# EAGLE library part ARDUINO_BREADBOARD (library Headers)
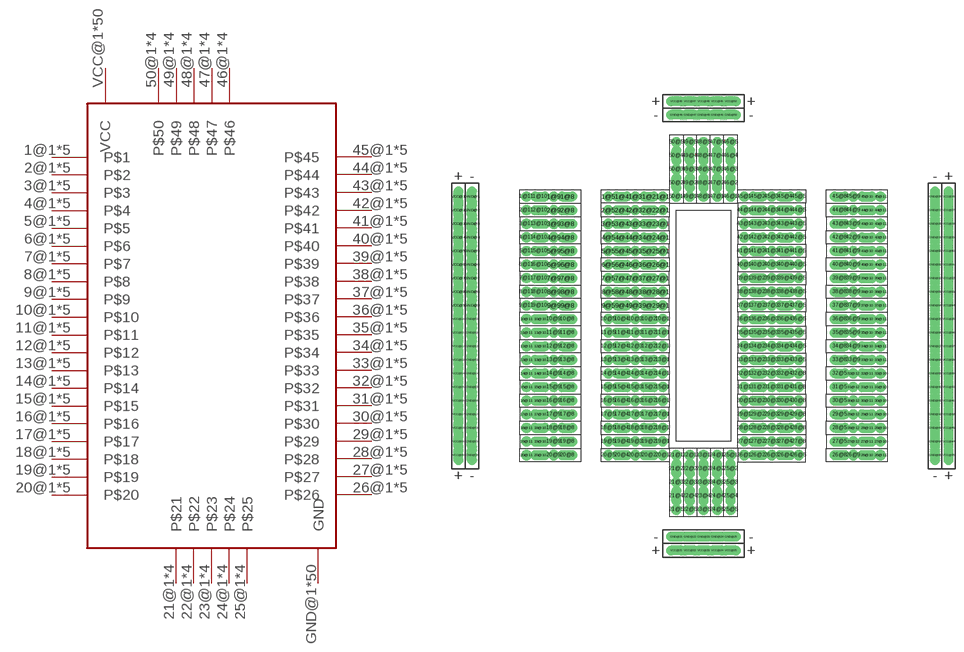
[diagram p0: symbol with the pads of ARDUINO_BREADBOARD; footprint ARDUINO_BREADBOARD]

Designator prefix -

## ARDUINO_BREADBOARD  [ARDUINO_BREADBOARD]
1@1  P$1
1@2  P$1
1@3  P$1
1@4  P$1
1@5  P$1
2@1  P$2
2@2  P$2
2@3  P$2
2@4  P$2
2@5  P$2
3@1  P$3
3@2  P$3
3@3  P$3
3@4  P$3
3@5  P$3
4@1  P$4
4@2  P$4
4@3  P$4
4@4  P$4
4@5  P$4
5@1  P$5
5@2  P$5
5@3  P$5
5@4  P$5
5@5  P$5
6@1  P$6
6@2  P$6
6@3  P$6
6@4  P$6
6@5  P$6
7@1  P$7
7@2  P$7
7@3  P$7
7@4  P$7
7@5  P$7
8@1  P$8
8@2  P$8
8@3  P$8
8@4  P$8
8@5  P$8
9@1  P$9
9@2  P$9
9@3  P$9
9@4  P$9
9@5  P$9
10@1  P$10
10@2  P$10
10@3  P$10
10@4  P$10
10@5  P$10
11@1  P$11
11@2  P$11
11@3  P$11
11@4  P$11
11@5  P$11
12@1  P$12
12@2  P$12
12@3  P$12
12@4  P$12
12@5  P$12
13@1  P$13
13@2  P$13
13@3  P$13
13@4  P$13
13@5  P$13
14@1  P$14
14@2  P$14
14@3  P$14
14@4  P$14
14@5  P$14
15@1  P$15
15@2  P$15
15@3  P$15
15@4  P$15
15@5  P$15
16@1  P$16
16@2  P$16
16@3  P$16
16@4  P$16
16@5  P$16
17@1  P$17
17@2  P$17
17@3  P$17
17@4  P$17
17@5  P$17
18@1  P$18
18@2  P$18
18@3  P$18
18@4  P$18
18@5  P$18
19@1  P$19
19@2  P$19
19@3  P$19
19@4  P$19
19@5  P$19
20@1  P$20
20@2  P$20
20@3  P$20
20@4  P$20
20@5  P$20
21@1  P$21
21@2  P$21
21@3  P$21
21@4  P$21
22@1  P$22
22@2  P$22
22@3  P$22
22@4  P$22
23@1  P$23
23@2  P$23
23@3  P$23
23@4  P$23
24@1  P$24
24@2  P$24
24@3  P$24
24@4  P$24
25@1  P$25
25@2  P$25
25@3  P$25
25@4  P$25
26@1  P$26
26@2  P$26
26@3  P$26
26@4  P$26
26@5  P$26
27@1  P$27
27@2  P$27
27@3  P$27
27@4  P$27
27@5  P$27
28@1  P$28
28@2  P$28
28@3  P$28
28@4  P$28
28@5  P$28
29@1  P$29
29@2  P$29
29@3  P$29
29@4  P$29
29@5  P$29
30@1  P$30
30@2  P$30
30@3  P$30
30@4  P$30
30@5  P$30
31@1  P$31
31@2  P$31
31@3  P$31
31@4  P$31
31@5  P$31
32@1  P$32
32@2  P$32
32@3  P$32
32@4  P$32
32@5  P$32
33@1  P$33
33@2  P$33
33@3  P$33
33@4  P$33
33@5  P$33
34@1  P$34
34@2  P$34
34@3  P$34
34@4  P$34
34@5  P$34
35@1  P$35
35@2  P$35
35@3  P$35
35@4  P$35
35@5  P$35
36@1  P$36
36@2  P$36
36@3  P$36
36@4  P$36
36@5  P$36
37@1  P$37
37@2  P$37
37@3  P$37
37@4  P$37
37@5  P$37
38@1  P$38
38@2  P$38
38@3  P$38
38@4  P$38
38@5  P$38
39@1  P$39
39@2  P$39
39@3  P$39
39@4  P$39
39@5  P$39
40@1  P$40
40@2  P$40
40@3  P$40
40@4  P$40
40@5  P$40
41@1  P$41
41@2  P$41
41@3  P$41
41@4  P$41
41@5  P$41
42@1  P$42
42@2  P$42
42@3  P$42
42@4  P$42
42@5  P$42
43@1  P$43
43@2  P$43
43@3  P$43
43@4  P$43
43@5  P$43
44@1  P$44
44@2  P$44
44@3  P$44
44@4  P$44
44@5  P$44
45@1  P$45
45@2  P$45
45@3  P$45
45@4  P$45
45@5  P$45
46@1  P$46
46@2  P$46
46@3  P$46
46@4  P$46
47@1  P$47
47@2  P$47
47@3  P$47
47@4  P$47
48@1  P$48
48@2  P$48
48@3  P$48
48@4  P$48
49@1  P$49
49@2  P$49
49@3  P$49
49@4  P$49
50@1  P$50
50@2  P$50
50@3  P$50
50@4  P$50
GND@1  GND
GND@2  GND
GND@3  GND
GND@4  GND
GND@5  GND
GND@6  GND
GND@7  GND
GND@8  GND
GND@9  GND
GND@10  GND
GND@11  GND
GND@12  GND
GND@13  GND
GND@14  GND
GND@15  GND
GND@16  GND
GND@17  GND
GND@18  GND
GND@19  GND
GND@20  GND
GND@21  GND
GND@22  GND
GND@23  GND
GND@24  GND
GND@25  GND
GND@26  GND
GND@27  GND
GND@28  GND
GND@29  GND
GND@30  GND
GND@31  GND
GND@32  GND
GND@33  GND
GND@34  GND
GND@35  GND
GND@36  GND
GND@37  GND
GND@38  GND
GND@39  GND
GND@40  GND
GND@41  GND
GND@42  GND
GND@43  GND
GND@44  GND
GND@45  GND
GND@46  GND
GND@47  GND
GND@48  GND
GND@49  GND
GND@50  GND
VCC@1  VCC
VCC@2  VCC
VCC@3  VCC
VCC@4  VCC
VCC@5  VCC
VCC@6  VCC
VCC@7  VCC
VCC@8  VCC
VCC@9  VCC
VCC@10  VCC
VCC@11  VCC
VCC@12  VCC
VCC@13  VCC
VCC@14  VCC
VCC@15  VCC
VCC@16  VCC
VCC@17  VCC
VCC@18  VCC
VCC@19  VCC
VCC@20  VCC
VCC@21  VCC
VCC@22  VCC
VCC@23  VCC
VCC@24  VCC
VCC@25  VCC
VCC@26  VCC
VCC@27  VCC
VCC@28  VCC
VCC@29  VCC
VCC@30  VCC
VCC@31  VCC
VCC@32  VCC
VCC@33  VCC
VCC@34  VCC
VCC@35  VCC
VCC@36  VCC
VCC@37  VCC
VCC@38  VCC
VCC@39  VCC
VCC@40  VCC
VCC@41  VCC
VCC@42  VCC
VCC@43  VCC
VCC@44  VCC
VCC@45  VCC
VCC@46  VCC
VCC@47  VCC
VCC@48  VCC
VCC@49  VCC
VCC@50  VCC

## Footprint ARDUINO_BREADBOARD (pad centres in mm)
drill 1.1 pad 1.9: 1@1 -7.62,24.13; 1@3 -12.7,24.13; 1@5 -17.78,24.13; 1@9 -27.94,24.13; 1@11 -33.02,24.13; 2@1 -7.62,21.59; 2@3 -12.7,21.59; 2@5 -17.78,21.59; 2@9 -27.94,21.59; 2@11 -33.02,21.59; 3@1 -7.62,19.05; 3@3 -12.7,19.05; 3@5 -17.78,19.05; 3@9 -27.94,19.05; 3@11 -33.02,19.05; 4@1 -7.62,16.51; 4@3 -12.7,16.51; 4@5 -17.78,16.51; 4@9 -27.94,16.51; 4@11 -33.02,16.51; 5@1 -7.62,13.97; 5@3 -12.7,13.97; 5@5 -17.78,13.97; 5@9 -27.94,13.97; 5@11 -33.02,13.97; 6@1 -7.62,11.43; 6@3 -12.7,11.43; 6@5 -17.78,11.43; 6@9 -27.94,11.43; 6@11 -33.02,11.43; 7@1 -7.62,8.89; 7@3 -12.7,8.89; 7@5 -17.78,8.89; 7@9 -27.94,8.89; 7@11 -33.02,8.89; 8@1 -7.62,6.35; 8@3 -12.7,6.35; 8@5 -17.78,6.35; 8@9 -27.94,6.35; 8@11 -33.02,6.35; 9@1 -7.62,3.81; 9@3 -12.7,3.81; 9@5 -17.78,3.81; 9@9 -27.94,3.81; 9@11 -33.02,3.81; 10@1 -7.62,1.27; 10@3 -12.7,1.27; 10@5 -17.78,1.27; 10@9 -27.94,1.27; 10@11 -33.02,1.27; 11@1 -7.62,-1.27; 11@3 -12.7,-1.27; 11@5 -17.78,-1.27; 11@9 -27.94,-1.27; 11@11 -33.02,-1.27; 12@1 -7.62,-3.81; 12@3 -12.7,-3.81; 12@5 -17.78,-3.81; 12@9 -27.94,-3.81; 12@11 -33.02,-3.81; 13@1 -7.62,-6.35; 13@3 -12.7,-6.35; 13@5 -17.78,-6.35; 13@9 -27.94,-6.35; 13@11 -33.02,-6.35; 14@1 -7.62,-8.89; 14@3 -12.7,-8.89; 14@5 -17.78,-8.89; 14@9 -27.94,-8.89; 14@11 -33.02,-8.89; 15@1 -7.62,-11.43; 15@3 -12.7,-11.43; 15@5 -17.78,-11.43; 15@9 -27.94,-11.43; 15@11 -33.02,-11.43; 16@1 -7.62,-13.97; 16@3 -12.7,-13.97; 16@5 -17.78,-13.97; 16@9 -27.94,-13.97; 16@11 -33.02,-13.97; 17@1 -7.62,-16.51; 17@3 -12.7,-16.51; 17@5 -17.78,-16.51; 17@9 -27.94,-16.51; 17@11 -33.02,-16.51; 18@1 -7.62,-19.05; 18@3 -12.7,-19.05; 18@5 -17.78,-19.05; 18@9 -27.94,-19.05; 18@11 -33.02,-19.05; 19@1 -7.62,-21.59; 19@3 -12.7,-21.59; 19@5 -17.78,-21.59; 19@9 -27.94,-21.59; 19@11 -33.02,-21.59; 20@1 -7.62,-24.13; 20@3 -12.7,-24.13; 20@5 -17.78,-24.13; 20@9 -27.94,-24.13; 20@11 -33.02,-24.13; 21@1 -5.08,-24.13; 21@3 -5.08,-29.21; 21@5 -5.08,-34.29; 22@1 -2.54,-24.13; 22@3 -2.54,-29.21; 22@5 -2.54,-34.29; 23@1 0,-24.13; 23@3 0,-29.21; 23@5 0,-34.29; 24@1 2.54,-24.13; 24@3 2.54,-29.21; 24@5 2.54,-34.29; 25@1 5.08,-24.13; 25@3 5.08,-29.21; 25@5 5.08,-34.29; 26@1 7.62,-24.13; 26@3 12.7,-24.13; 26@5 17.78,-24.13; 26@9 27.94,-24.13; 26@11 33.02,-24.13; 27@1 7.62,-21.59; 27@3 12.7,-21.59; 27@8 17.78,-21.59; 27@10 33.02,-21.59; 27@12 27.94,-21.59; 28@1 7.62,-19.05; 28@3 12.7,-19.05; 28@8 17.78,-19.05; 28@10 33.02,-19.05; 28@12 27.94,-19.05; 29@1 7.62,-16.51; 29@3 12.7,-16.51; 29@8 17.78,-16.51; 29@10 33.02,-16.51; 29@12 27.94,-16.51; 30@1 7.62,-13.97; 30@3 12.7,-13.97; 30@8 17.78,-13.97; 30@10 33.02,-13.97; 30@12 27.94,-13.97; 31@1 7.62,-11.43; 31@3 12.7,-11.43; 31@8 17.78,-11.43; 31@10 33.02,-11.43; 31@12 27.94,-11.43; 32@1 7.62,-8.89; 32@3 12.7,-8.89; 32@8 17.78,-8.89; 32@10 33.02,-8.89; 32@12 27.94,-8.89; 33@1 7.62,-6.35; 33@3 12.7,-6.35; 33@5 17.78,-6.35; 33@9 27.94,-6.35; 33@11 33.02,-6.35; 34@1 7.62,-3.81; 34@3 12.7,-3.81; 34@5 17.78,-3.81; 34@9 27.94,-3.81; 34@11 33.02,-3.81; 35@1 7.62,-1.27; 35@3 12.7,-1.27; 35@5 17.78,-1.27; 35@9 27.94,-1.27; 35@11 33.02,-1.27; 36@1 7.62,1.27; 36@3 12.7,1.27; 36@5 17.78,1.27; 36@9 27.94,1.27; 36@11 33.02,1.27; 37@1 7.62,3.81; 37@3 12.7,3.81; 37@5 17.78,3.81; 37@9 27.94,3.81; 37@11 33.02,3.81; 38@1 7.62,6.35; 38@3 12.7,6.35; 38@5 17.78,6.35; 38@9 27.94,6.35; 38@11 33.02,6.35; 39@1 7.62,8.89; 39@3 12.7,8.89; 39@5 17.78,8.89; 39@9 27.94,8.89; 39@11 33.02,8.89; 40@1 7.62,11.43; 40@3 12.7,11.43; 40@5 17.78,11.43; 40@9 27.94,11.43; 40@11 33.02,11.43; 41@1 7.62,13.97; 41@3 12.7,13.97; 41@5 17.78,13.97; 41@9 27.94,13.97; 41@11 33.02,13.97; 42@1 7.62,16.51; 42@3 12.7,16.51; 42@5 17.78,16.51; 42@9 27.94,16.51; 42@11 33.02,16.51; 43@1 7.62,19.05; 43@3 12.7,19.05; 43@5 17.78,19.05; 43@9 27.94,19.05; 43@11 33.02,19.05; 44@1 7.62,21.59; 44@3 12.7,21.59; 44@5 17.78,21.59; 44@9 27.94,21.59; 44@11 33.02,21.59; 45@1 7.62,24.13; 45@3 12.7,24.13; 45@5 17.78,24.13; 45@9 27.94,24.13; 45@11 33.02,24.13; 46@1 5.08,24.13; 46@3 5.08,29.21; 46@5 5.08,34.29; 47@1 2.54,24.13; 47@3 2.54,29.21; 47@5 2.54,34.29; 48@1 0,24.13; 48@3 0,29.21; 48@5 0,34.29; 49@1 -2.54,24.13; 49@3 -2.54,29.21; 49@5 -2.54,34.29; 50@1 -5.08,24.13; 50@3 -5.08,29.21; 50@5 -5.08,34.29
drill 1.1 pad 1.9 long: 1@2 -10.16,24.13; 1@4 -15.24,24.13; 1@8 -25.4,24.13; 1@10 -30.48,24.13; 2@2 -10.16,21.59; 2@4 -15.24,21.59; 2@8 -25.4,21.59; 2@10 -30.48,21.59; 3@2 -10.16,19.05; 3@4 -15.24,19.05; 3@8 -25.4,19.05; 3@10 -30.48,19.05; 4@2 -10.16,16.51; 4@4 -15.24,16.51; 4@8 -25.4,16.51; 4@10 -30.48,16.51; 5@2 -10.16,13.97; 5@4 -15.24,13.97; 5@8 -25.4,13.97; 5@10 -30.48,13.97; 6@2 -10.16,11.43; 6@4 -15.24,11.43; 6@8 -25.4,11.43; 6@10 -30.48,11.43; 7@2 -10.16,8.89; 7@4 -15.24,8.89; 7@8 -25.4,8.89; 7@10 -30.48,8.89; 8@2 -10.16,6.35; 8@4 -15.24,6.35; 8@8 -25.4,6.35; 8@10 -30.48,6.35; 9@2 -10.16,3.81; 9@4 -15.24,3.81; 9@8 -25.4,3.81; 9@10 -30.48,3.81; 10@2 -10.16,1.27; 10@4 -15.24,1.27; 10@8 -25.4,1.27; 10@10 -30.48,1.27; 11@2 -10.16,-1.27; 11@4 -15.24,-1.27; 11@8 -25.4,-1.27; 11@10 -30.48,-1.27; 12@2 -10.16,-3.81; 12@4 -15.24,-3.81; 12@8 -25.4,-3.81; 12@10 -30.48,-3.81; 13@2 -10.16,-6.35; 13@4 -15.24,-6.35; 13@8 -25.4,-6.35; 13@10 -30.48,-6.35; 14@2 -10.16,-8.89; 14@4 -15.24,-8.89; 14@8 -25.4,-8.89; 14@10 -30.48,-8.89; 15@2 -10.16,-11.43; 15@4 -15.24,-11.43; 15@8 -25.4,-11.43; 15@10 -30.48,-11.43; 16@2 -10.16,-13.97; 16@4 -15.24,-13.97; 16@8 -25.4,-13.97; 16@10 -30.48,-13.97; 17@2 -10.16,-16.51; 17@4 -15.24,-16.51; 17@8 -25.4,-16.51; 17@10 -30.48,-16.51; 18@2 -10.16,-19.05; 18@4 -15.24,-19.05; 18@8 -25.4,-19.05; 18@10 -30.48,-19.05; 19@2 -10.16,-21.59; 19@4 -15.24,-21.59; 19@8 -25.4,-21.59; 19@10 -30.48,-21.59; 20@2 -10.16,-24.13; 20@4 -15.24,-24.13; 20@8 -25.4,-24.13; 20@10 -30.48,-24.13; 21@2 -5.08,-26.67; 21@4 -5.08,-31.75; 22@2 -2.54,-26.67; 22@4 -2.54,-31.75; 23@2 0,-26.67; 23@4 0,-31.75; 24@2 2.54,-26.67; 24@4 2.54,-31.75; 25@2 5.08,-26.67; 25@4 5.08,-31.75; 26@2 10.16,-24.13; 26@4 15.24,-24.13; 26@8 25.4,-24.13; 26@10 30.48,-24.13; 27@2 10.16,-21.59; 27@4 15.24,-21.59; 27@5 25.4,-21.59; 27@11 30.48,-21.59; 28@2 10.16,-19.05; 28@4 15.24,-19.05; 28@5 25.4,-19.05; 28@11 30.48,-19.05; 29@2 10.16,-16.51; 29@4 15.24,-16.51; 29@5 25.4,-16.51; 29@11 30.48,-16.51; 30@2 10.16,-13.97; 30@4 15.24,-13.97; 30@5 25.4,-13.97; 30@11 30.48,-13.97; 31@2 10.16,-11.43; 31@4 15.24,-11.43; 31@5 25.4,-11.43; 31@11 30.48,-11.43; 32@2 10.16,-8.89; 32@4 15.24,-8.89; 32@5 25.4,-8.89; 32@11 30.48,-8.89; 33@2 10.16,-6.35; 33@4 15.24,-6.35; 33@8 25.4,-6.35; 33@10 30.48,-6.35; 34@2 10.16,-3.81; 34@4 15.24,-3.81; 34@8 25.4,-3.81; 34@10 30.48,-3.81; 35@2 10.16,-1.27; 35@4 15.24,-1.27; 35@8 25.4,-1.27; 35@10 30.48,-1.27; 36@2 10.16,1.27; 36@4 15.24,1.27; 36@8 25.4,1.27; 36@10 30.48,1.27; 37@2 10.16,3.81; 37@4 15.24,3.81; 37@8 25.4,3.81; 37@10 30.48,3.81; 38@2 10.16,6.35; 38@4 15.24,6.35; 38@8 25.4,6.35; 38@10 30.48,6.35; 39@2 10.16,8.89; 39@4 15.24,8.89; 39@8 25.4,8.89; 39@10 30.48,8.89; 40@2 10.16,11.43; 40@4 15.24,11.43; 40@8 25.4,11.43; 40@10 30.48,11.43; 41@2 10.16,13.97; 41@4 15.24,13.97; 41@8 25.4,13.97; 41@10 30.48,13.97; 42@2 10.16,16.51; 42@4 15.24,16.51; 42@8 25.4,16.51; 42@10 30.48,16.51; 43@2 10.16,19.05; 43@4 15.24,19.05; 43@8 25.4,19.05; 43@10 30.48,19.05; 44@2 10.16,21.59; 44@4 15.24,21.59; 44@8 25.4,21.59; 44@10 30.48,21.59; 45@2 10.16,24.13; 45@4 15.24,24.13; 45@8 25.4,24.13; 45@10 30.48,24.13; 46@2 5.08,26.67; 46@4 5.08,31.75; 47@2 2.54,26.67; 47@4 2.54,31.75; 48@2 0,26.67; 48@4 0,31.75; 49@2 -2.54,26.67; 49@4 -2.54,31.75; 50@2 -5.08,26.67; 50@4 -5.08,31.75; GND@1 -43.18,24.13; GND@2 -43.18,21.59; GND@3 -43.18,19.05; GND@4 -43.18,16.51; GND@5 -43.18,13.97; GND@6 -43.18,11.43; GND@7 -43.18,8.89; GND@8 -43.18,6.35; GND@9 -43.18,3.81; GND@10 -43.18,1.27; GND@11 -43.18,-1.27; GND@12 -43.18,-3.81; GND@13 -43.18,-6.35; GND@14 -43.18,-8.89; GND@15 -43.18,-11.43; GND@16 -43.18,-13.97; GND@17 -43.18,-16.51; GND@18 -43.18,-19.05; GND@19 -43.18,-21.59; GND@20 -43.18,-24.13; GND@21 -5.08,-39.37; GND@22 -2.54,-39.37; GND@23 0,-39.37; GND@24 2.54,-39.37; GND@25 5.08,-39.37; GND@26 43.18,24.13; GND@27 43.18,21.59; GND@28 43.18,19.05; GND@29 43.18,16.51; GND@30 43.18,13.97; GND@31 43.18,11.43; GND@32 43.18,8.89; GND@33 43.18,6.35; GND@34 43.18,3.81; GND@35 43.18,1.27; GND@36 43.18,-1.27; GND@37 43.18,-3.81; GND@38 43.18,-6.35; GND@39 43.18,-8.89; GND@40 43.18,-11.43; GND@41 43.18,-13.97; GND@42 43.18,-16.51; GND@43 43.18,-19.05; GND@44 43.18,-21.59; GND@45 43.18,-24.13; GND@46 -5.08,39.37; GND@47 -2.54,39.37; GND@48 0,39.37; GND@49 2.54,39.37; GND@50 5.08,39.37; VCC@1 -45.72,24.13; VCC@2 -45.72,21.59; VCC@3 -45.72,19.05; VCC@4 -45.72,16.51; VCC@5 -45.72,13.97; VCC@6 -45.72,11.43; VCC@7 -45.72,8.89; VCC@8 -45.72,6.35; VCC@9 -45.72,3.81; VCC@10 -45.72,1.27; VCC@11 -45.72,-1.27; VCC@12 -45.72,-3.81; VCC@13 -45.72,-6.35; VCC@14 -45.72,-8.89; VCC@15 -45.72,-11.43; VCC@16 -45.72,-13.97; VCC@17 -45.72,-16.51; VCC@18 -45.72,-19.05; VCC@19 -45.72,-21.59; VCC@20 -45.72,-24.13; VCC@21 -5.08,-41.91; VCC@22 -2.54,-41.91; VCC@23 0,-41.91; VCC@24 2.54,-41.91; VCC@25 5.08,-41.91; VCC@26 45.72,24.13; VCC@27 45.72,21.59; VCC@28 45.72,19.05; VCC@29 45.72,16.51; VCC@30 45.72,13.97; VCC@31 45.72,11.43; VCC@32 45.72,8.89; VCC@33 45.72,6.35; VCC@34 45.72,3.81; VCC@35 45.72,1.27; VCC@36 45.72,-1.27; VCC@37 45.72,-3.81; VCC@38 45.72,-6.35; VCC@39 45.72,-8.89; VCC@40 45.72,-11.43; VCC@41 45.72,-13.97; VCC@42 45.72,-16.51; VCC@43 45.72,-19.05; VCC@44 45.72,-21.59; VCC@45 45.72,-24.13; VCC@46 -5.08,41.91; VCC@47 -2.54,41.91; VCC@48 0,41.91; VCC@49 2.54,41.91; VCC@50 5.08,41.91